# Altium schematic symbol library LineDrivers.SchLib: 2 symbols
Pins are listed as number, name and electrical type; pins without a type are passive.

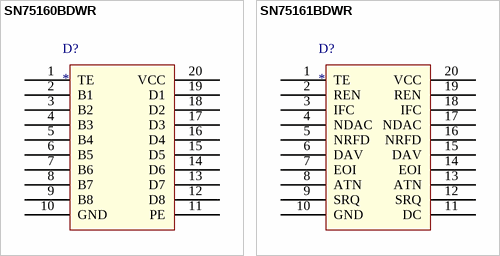
[diagram p0: symbols SN75160BDWR to SN75161BDWR]

## SN75160BDWR
designator D?
footprint SOIC-20
pins: 1 TE, 2 B1, 3 B2, 4 B3, 5 B4, 6 B5, 7 B6, 8 B7, 9 B8, 10 GND, 11 PE, 12 D8, 13 D7, 14 D6, 15 D5, 16 D4, 17 D3, 18 D2, 19 D1, 20 VCC

## SN75161BDWR
designator D?
footprint SOIC-20
pins: 1 TE, 2 REN, 3 IFC, 4 NDAC, 5 NRFD, 6 DAV, 7 EOI, 8 ATN, 9 SRQ, 10 GND, 11 DC, 12 SRQ, 13 ATN, 14 EOI, 15 DAV, 16 NRFD, 17 NDAC, 18 IFC, 19 REN, 20 VCC